# Altium footprint library ECEN299_Library.PcbLib: 8 footprints
Each footprint in its own frame and in the unit in brackets; x right, y up, seen from the top. Pads: shape width x height; smd on the part's side, far side on the other; paste and mask are expansions set on the pad; w line width, h text height; cw(c..) or ccw(c..) is an arc to the next point about the centre after c.
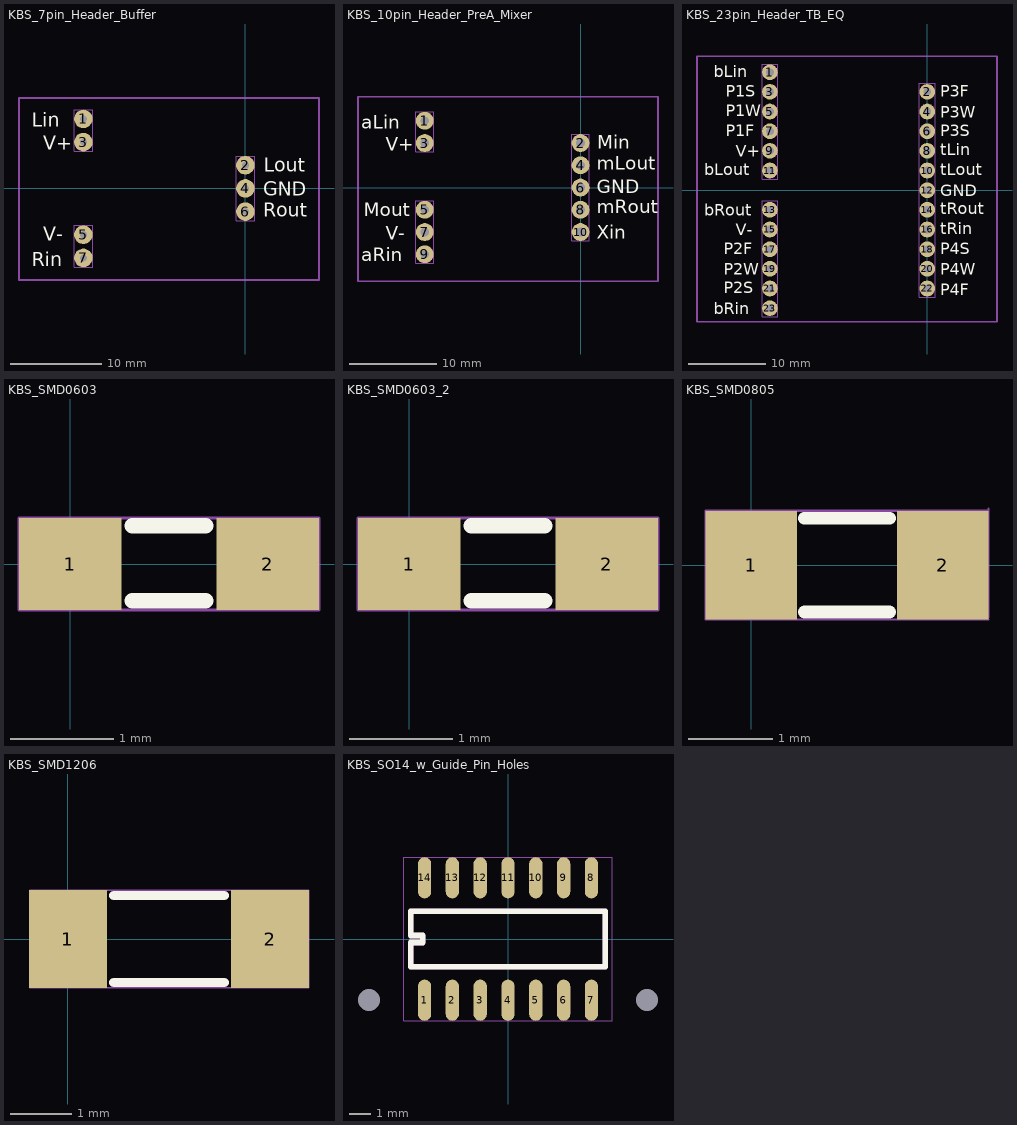
[diagram p0: the footprints below, top view; thin cyan lines are the x and y axes]

## KBS_7pin_Header_Buffer [mil]
pads (7):
  round 80 hole 31 mask+2.5: 1(-700,300) 2(0,100) 3(-700,200) 4(0,0) 5(-700,-200) 6(0,-100) 7(-700,-300)
Top Overlay:
  text "Rout" at 77,-123 h60
  text "GND" at 77,-32 h60
  text "Lout" at 79,73 h60
  text "Rin" at -923,-336 h60
  text "V-" at -873.02,-226 h60
  text "V+" at -873.02,166 h60
  text "Lin" at -923,267 h60
Top Courtyard:
  lines w1: -740,-340 -740,-160 -660,-160 -660,-340 -740,-340 ; -740,160 -740,340 -660,340 -660,160 -740,160 ; -40,-140 -40,140 40,140 40,-140 -40,-140
Mechanical 28:
  lines w7.87: -978,-395 -978,390 318,390 318,-395 -978,-395
3D body: height 1, standoff 0, extent -40,-140 40,140
3D body: height 1, standoff 0, extent -740,-340 -660,-160
3D body: height 1, standoff 0, extent -740,160 -660,340

## KBS_10pin_Header_PreA_Mixer [mil]
pads (10):
  round 80 hole 39 mask+2: 1(-700,300) 2(0,200) 3(-700,200) 4(0,100) 5(-700,-100) 6(0,0) 7(-700,-200) 8(0,-100) 9(-700,-300) 10(0,-200)
Top Overlay:
  text "Xin" at 73,-230 h60
  text "mRout" at 72,-115 h60
  text "GND" at 72,-25 h60
  text "mLout" at 72,80 h60
  text "Min" at 75,174 h60
  text "aRin" at -985,-331 h60
  text "Mout" at -975,-129 h60
  text "V-" at -875.04,-234 h60
  text "V+" at -875.04,166 h60
  text "aLin" at -985,265 h60
Top Courtyard:
  lines w1: -740,-340 -660,-340 -660,-60 -740,-60 -740,-340 ; -740,160 -660,160 -660,340 -740,340 -740,160 ; -40,-240 40,-240 40,240 -40,240 -40,-240
Mechanical 28:
  lines w7.87: -1000,-421 348,-421 348,408 -1000,408 -1000,-421
3D body: height 1, standoff 0, extent -740,160 -660,340
3D body: height 1, standoff 0, extent -740,-340 -660,-60
3D body: height 1, standoff 0, extent -40,-240 40,240

## KBS_23pin_Header_TB_EQ [mil]
pads (23):
  round 80 hole 39 mask+2: 1(-800,600) 2(0,500) 3(-800,500) 4(0,400) 5(-800,400) 6(0,300) 7(-800,300) 8(0,200) 9(-800,200) 10(0,100) 11(-800,100) 12(0,0) 13(-800,-100) 14(0,-100) 15(-800,-200) 16(0,-200) 17(-800,-300) 18(0,-300) 19(-800,-400) 20(0,-400) 21(-800,-500) 22(0,-500) 23(-800,-600)
Top Overlay:
  text "P4F" at 65.99,-535 h60
  text "P4W" at 65.99,-429 h60
  text "P4S" at 65.99,-327 h60
  text "tRin" at 65.99,-225 h60
  text "tRout" at 65.99,-122 h60
  text "GND" at 65.99,-30 h60
  text "tLout" at 65.99,75 h60
  text "tLin" at 65.99,178 h60
  text "P3S" at 65.99,274 h60
  text "P3W" at 65.99,368 h60
  text "P3F" at 65.99,476 h60
  text "bRin" at -1084.98,-630 h60
  text "P2S" at -1035,-525 h60
  text "P2W" at -1035,-430 h60
  text "P2F" at -1035,-325 h60
  text "V-" at -975.02,-230 h60
  text "bRout" at -1134.96,-130 h60
  text "bLout" at -1134.96,75 h60
  text "V+" at -975.02,170 h60
  text "P1F" at -1025,275 h60
  text "P1W" at -1025,375 h60
  text "P1S" at -1025,475 h60
  text "bLin" at -1084.98,575 h60
Top Courtyard:
  lines w1: -840,-645 -760,-645 -760,-55 -840,-55 -840,-645 ; -840,55 -760,55 -760,640 -840,640 -840,55 ; -40,-545 40,-545 40,545 -40,545 -40,-545
Mechanical 28:
  lines w7.87: -1171,-670 355,-670 355,682 -1171,682 -1171,-670
3D body: height 1, standoff 0, extent -840,55 -760,640
3D body: height 1, standoff 0, extent -840,-645 -760,-55
3D body: height 1, standoff 0, extent -40,-545 40,545

## KBS_SMD0603 [mil]
pads (2):
  rrect1% 39x35 smd mask+2.5: 1(0,0) 2(75,0)
Top Overlay:
  lines w6: 23.5,-14 51.5,-14 ; 23.5,14.5 51.5,14.5
Top Courtyard:
  lines w1: -19.5,-17.5 -19.5,17.5 94.5,17.5 94.5,-17.5 -19.5,-17.5
3D body: height 1, standoff 0, extent -19.6,-17.56 93.4,17.44

## KBS_SMD0603_2 [mil]
pads (2):
  rrect1% 39x35 smd mask+2.5: 1(0,0) 2(75,0)
Top Overlay:
  lines w6: 23.5,-14 51.5,-14 ; 23.5,14.5 51.5,14.5
Top Courtyard:
  lines w1: -19.5,-17.5 -19.5,17.5 94.5,17.5 94.5,-17.5 -19.5,-17.5
3D body: height 1, standoff 0, extent -19.6,-17.56 93.4,17.44

## KBS_SMD0805 [mil]
pads (2):
  rrect1% 43x51 smd mask+2.5: 1(0,0) 2(90,0)
Top Overlay:
  lines w6: 25,-22 65,-22 ; 25,22 65,22
Top Courtyard:
  lines w1: 111.5,-25.5 -21.5,-25.5 -21.5,25.5 111.5,25.5 ; 111.5,-24.5 111.5,26.5
3D body: height 1, standoff 0, extent -20.9,-26.14 112.1,24.86

## KBS_SMD1206 [mil]
pads (2):
  rrect1% 50x63 smd mask+2.5: 1(0,0) 2(130,0)
Top Overlay:
  lines w6: 29.5,-28 100.5,-28 ; 29.5,28 100.5,28
Top Courtyard:
  lines w1: -24.5,-31.5 155,-31.5 155,31.5 -24.5,31.5 -24.5,-31.5
3D body: height 1, standoff 0, extent -24.46,-32.04 154.54,30.99

## KBS_SO14_w_Guide_Pin_Holes [mil]
pads (16):
  oval 24x74 smd paste+0 mask+2: 1(-150,-110) 2(-100,-110) 3(-50,-110) 4(0,-110) 5(50,-110) 6(100,-110) 7(150,-110) 8(150,110) 9(100,110) 10(50,110) 11(0,110) 12(-50,110) 13(-100,110) 14(-150,110)
  round 0 hole 39.37 unplated mask+0: MH_1(250,-110) MH_2(-250,-110)
Top Overlay:
  lines w10: -175,-50 -175,-6.25 -153.13,-6.25 -153.13,6.25 -175,6.25 -175,50 175,50 175,-50 -175,-50
Top Assembly:
  lines w10: -175,-50 -175,-6.25 -153.13,-6.25 -153.13,6.25 -175,6.25 -175,50 175,50 175,-50 -175,-50
Top Courtyard:
  lines w1: -187,-147 187,-147 187,147 -187,147 -187,-147
3D body: height 1, standoff 0, extent -187,-147 187,147